# Altium footprint library energy-micro-package.PcbLib: 2 footprints
Each footprint in its own frame and in the unit in brackets; x right, y up, seen from the top. Pads: shape width x height; smd on the part's side, far side on the other; paste and mask are expansions set on the pad; w line width, h text height; cw(c..) or ccw(c..) is an arc to the next point about the centre after c.
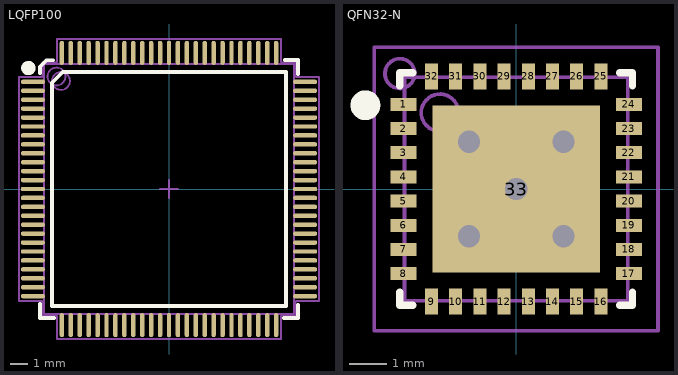
[diagram p0: the footprints below, top view; thin cyan lines are the x and y axes]

## LQFP100 [mm] "TSQFP, 100-Leads, Body 16.2x16.2mm (max), Pitch 0.50mm, IPC High Density"
height 1.6
pads (100):
  oval 1.35x0.25 smd: 1(-7.625,6) 2(-7.625,5.5) 3(-7.625,5) 4(-7.625,4.5) 5(-7.625,4) 6(-7.625,3.5) 7(-7.625,3) 8(-7.625,2.5) 9(-7.625,2) 10(-7.625,1.5) 11(-7.625,1) 12(-7.625,0.5) 13(-7.625,0) 14(-7.625,-0.5) 15(-7.625,-1) 16(-7.625,-1.5) 17(-7.625,-2) 18(-7.625,-2.5) 19(-7.625,-3) 20(-7.625,-3.5) 21(-7.625,-4) 22(-7.625,-4.5) 23(-7.625,-5) 24(-7.625,-5.5) 25(-7.625,-6) 51(7.625,-6) 52(7.625,-5.5) 53(7.625,-5) 54(7.625,-4.5) 55(7.625,-4) 56(7.625,-3.5) 57(7.625,-3) 58(7.625,-2.5) 59(7.625,-2) 60(7.625,-1.5) 61(7.625,-1) 62(7.625,-0.5) 63(7.625,0) 64(7.625,0.5) 65(7.625,1) 66(7.625,1.5) 67(7.625,2) 68(7.625,2.5) 69(7.625,3) 70(7.625,3.5) 71(7.625,4) 72(7.625,4.5) 73(7.625,5) 74(7.625,5.5) 75(7.625,6)
  oval 0.25x1.35 smd: 26(-6,-7.625) 27(-5.5,-7.625) 28(-5,-7.625) 29(-4.5,-7.625) 30(-4,-7.625) 31(-3.5,-7.625) 32(-3,-7.625) 33(-2.5,-7.625) 34(-2,-7.625) 35(-1.5,-7.625) 36(-1,-7.625) 37(-0.5,-7.625) 38(0,-7.625) 39(0.5,-7.625) 40(1,-7.625) 41(1.5,-7.625) 42(2,-7.625) 43(2.5,-7.625) 44(3,-7.625) 45(3.5,-7.625) 46(4,-7.625) 47(4.5,-7.625) 48(5,-7.625) 49(5.5,-7.625) 50(6,-7.625) 76(6,7.625) 77(5.5,7.625) 78(5,7.625) 79(4.5,7.625) 80(4,7.625) 81(3.5,7.625) 82(3,7.625) 83(2.5,7.625) 84(2,7.625) 85(1.5,7.625) 86(1,7.625) 87(0.5,7.625) 88(0,7.625) 89(-0.5,7.625) 90(-1,7.625) 91(-1.5,7.625) 92(-2,7.625) 93(-2.5,7.625) 94(-3,7.625) 95(-3.5,7.625) 96(-4,7.625) 97(-4.5,7.625) 98(-5,7.625) 99(-5.5,7.625) 100(-6,7.625)
Top Overlay:
  circle w0.4: c-7.875,6.775 r0.2
  lines w0.2: -7.225,-6.425 -7.225,-7.225 -6.425,-7.225 ; -7.225,6.475 -7.225,6.85 ; -6.475,7.2 -6.875,7.2 -7.225,6.85 ; 6.425,-7.225 7.225,-7.225 7.225,-6.475 ; 6.475,7.225 7.225,7.225 7.225,6.425 ; -7.225,6.85 -7.225,6.85 ; -6.55,-6.55 -6.55,5.95 -5.95,6.55 6.55,6.55 6.55,-6.55 -6.55,-6.55
Mechanical 13:
  circle w0.1: c-6.05,6.05 r0.5
  lines w0.1: -0.5,0 0.5,0 ; 0,-0.5 0,0.5 ; -7,-7 -7,7 7,7 7,-7 -7,-7
Mechanical 15:
  circle w0.1: c-6.3,6.3 r0.5
  lines w0.1: -8.4,-6.275 -8.4,6.275 -7.1,6.275 -7.1,7.1 -6.275,7.1 -6.275,8.4 6.275,8.4 6.275,7.1 7.1,7.1 7.1,6.275 8.4,6.275 8.4,-6.275 7.1,-6.275 7.1,-7.1 6.275,-7.1 6.275,-8.4 -6.275,-8.4 -6.275,-7.1 -7.1,-7.1 -7.1,-6.275 -8.4,-6.275
  text ".Designator" at -2.413,-0.254 h0.5
3D body: height 1.61, standoff -0.01, extent -8,-8 8,8

## QFN32-N [mm] "QFN, 32-Leads, Body 6.0x6.0mm (max), Pitch 0.65mm, IPC Medium Density"
height 0.9
pads (33):
  rect 0.7x0.35 smd: 1(-3.025,2.275) 2(-3.025,1.625) 3(-3.025,0.975) 4(-3.025,0.325) 5(-3.025,-0.325) 6(-3.025,-0.975) 7(-3.025,-1.625) 8(-3.025,-2.275) 17(3.025,-2.275) 18(3.025,-1.625) 19(3.025,-0.975) 20(3.025,-0.325) 21(3.025,0.325) 22(3.025,0.975) 23(3.025,1.625) 24(3.025,2.275)
  rect 0.35x0.7 smd: 9(-2.275,-3.025) 10(-1.625,-3.025) 11(-0.975,-3.025) 12(-0.325,-3.025) 13(0.325,-3.025) 14(0.975,-3.025) 15(1.625,-3.025) 16(2.275,-3.025) 25(2.275,3.025) 26(1.625,3.025) 27(0.975,3.025) 28(0.325,3.025) 29(-0.325,3.025) 30(-0.975,3.025) 31(-1.625,3.025) 32(-2.275,3.025)
  rect 4.5x4.5 smd: 33(0,0)
via -1.27,1.27 diameter 1 hole 0.6
via -1.27,-1.27 diameter 1 hole 0.6
via 1.27,1.27 diameter 1 hole 0.6
via 0,0 diameter 1 hole 0.6
via 1.27,-1.27 diameter 1 hole 0.6
Top Overlay:
  circle w0.4: c-4.05,2.25 r0.2
  lines w0.2: -3.125,-2.775 -3.125,-3.125 -2.775,-3.125 ; -3.125,2.775 -3.125,3.125 -2.775,3.125 ; 2.775,-3.125 3.125,-3.125 3.125,-2.775 ; 2.775,3.125 3.125,3.125 3.125,2.775
Mechanical 13:
  circle w0.1: c-2.05,2.05 r0.5
  lines w0.1: -3,-3 -3,3 3,3 3,-3 -3,-3
Mechanical 15:
  circle w0.1: c-3.125,3.1 r0.4
  lines w0.1: -0.5,0 0.5,0 ; 0,-0.5 0,0.5 ; -3.81,-3.81 -3.81,3.81 3.81,3.81 3.81,-3.81 -3.81,-3.81
  text ".Designator" at -2.413,-0.254 h0.5
3D body: height 0.9, standoff 0.05, extent -3,-3 3,3